# Altium integrated library Resistors.IntLib: 45 symbols
Pins are listed as number, name and electrical type; pins without a type are passive.

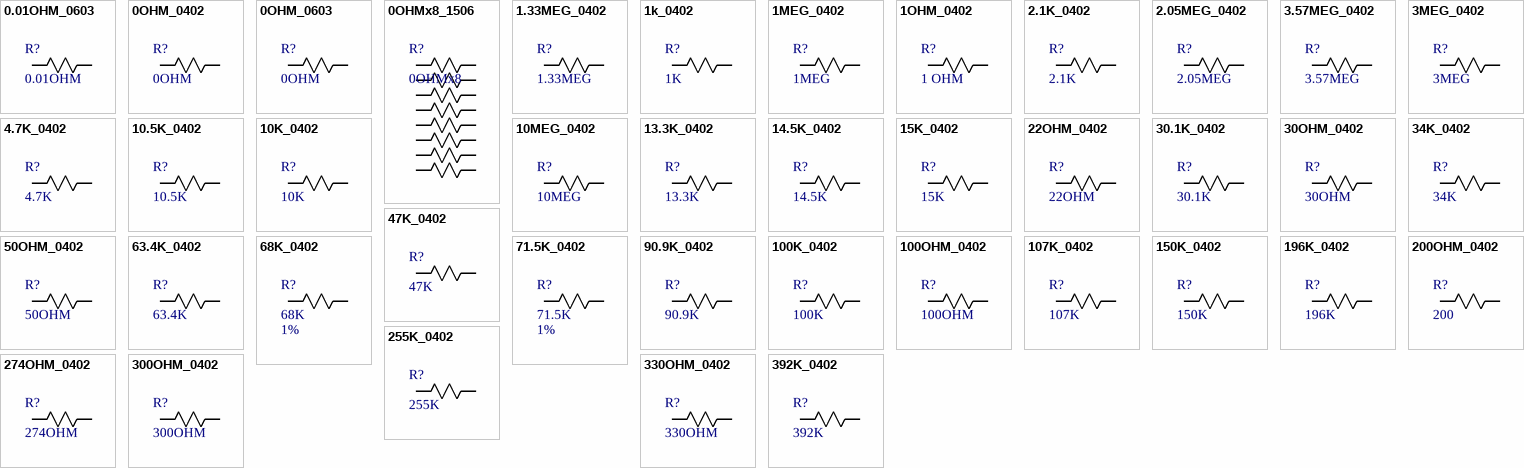
[diagram p0: symbols 0.01OHM_0603 to 392K_0402]

## 0.01OHM_0603
designator R?, comment 0.01OHM
0603; Manufacturer 1: *; Manufacturer Part Number 1: *
footprint RESC1508X06N (Chip Resistor, 2-Leads, Body 1.55x0.80mm, IPC Medium Density)
pins: 1, 2

## 0OHM_0402
designator R?, comment 0OHM
0402; Manufacturer 1: *; Manufacturer Part Number 1: *
footprint RES_CRCW_0402
pins: 1, 2

## 0OHM_0603
designator R?, comment 0OHM
0603; Manufacturer 1: *; Manufacturer Part Number 1: *
footprint RESC1508X06N (Chip Resistor, 2-Leads, Body 1.55x0.80mm, IPC Medium Density)
pins: 1, 2

## 0OHMx8_1506
designator R?, comment 0OHMx8
1506; Manufacturer_Part_Number: EXB-2HVR000V; Vendor: Panasonic; Value: Value; Copyright: Copyright (C) 2015 Accelerated Designs. All rights reserved; RefDes: RefDes; Type: DEV
footprint EXB2HV
pins: 1, 2, 3, 4, 5, 6, 7, 8, 9, 10, 11, 12, 13, 14, 15, 16

## 1.33MEG_0402
designator R?, comment 1.33MEG
0402; Tolerance: 1%; Manufacturer 1: *; Manufacturer Part Number 1: *
footprint RES_CRCW_0402
pins: 1, 2

## 1k_0402
designator R?, comment 1K
0402; Tolerance: 1%; Manufacturer 1: *; Manufacturer Part Number 1: *
footprint RES_CRCW_0402
pins: 1, 2

## 1MEG_0402
designator R?, comment 1MEG
0402; Tolerance: 1%; Manufacturer 1: *; Manufacturer Part Number 1: *
footprint RES_CRCW_0402
pins: 1, 2

## 1OHM_0402
designator R?, comment 1 OHM
0402; Manufacturer 1: *; Manufacturer Part Number 1: *
footprint RES_CRCW_0402
pins: 1, 2

## 2.1K_0402
designator R?, comment 2.1K
0402; Tolerance: 1%; Manufacturer 1: *; Manufacturer Part Number 1: *
footprint RES_CRCW_0402
pins: 1, 2

## 2.05MEG_0402
designator R?, comment 2.05MEG
0402; Tolerance: 1%; Manufacturer 1: *; Manufacturer Part Number 1: *
footprint RES_CRCW_0402
pins: 1, 2

## 3.57MEG_0402
designator R?, comment 3.57MEG
0402; Tolerance: 1%; Manufacturer 1: *; Manufacturer Part Number 1: *
footprint RES_CRCW_0402
pins: 1, 2

## 3MEG_0402
designator R?, comment 3MEG
0402; Tolerance: 1%; Manufacturer 1: *; Manufacturer Part Number 1: *
footprint RES_CRCW_0402
pins: 1, 2

## 4.7K_0402
designator R?, comment 4.7K
0402; Tolerance: 1%; Manufacturer 1: *; Manufacturer Part Number 1: *
footprint RES_CRCW_0402
pins: 1, 2

## 10.5K_0402
designator R?, comment 10.5K
0402; Tolerance: 1%; Manufacturer 1: *; Manufacturer Part Number 1: *
footprint RES_CRCW_0402
pins: 1, 2

## 10K_0402
designator R?, comment 10K
0402; Manufacturer Part Number 1: CRCW040210K0FKED; Tolerance: 1%; Manufacturer 1: *
footprint RES_CRCW_0402
pins: 1, 2

## 10MEG_0402
designator R?, comment 10MEG
0402; Tolerance: 1%; Manufacturer 1: *; Manufacturer Part Number 1: *
footprint RES_CRCW_0402
pins: 1, 2

## 13.3K_0402
designator R?, comment 13.3K
0402; Tolerance: 1%; Manufacturer 1: *; Manufacturer Part Number 1: *
footprint RES_CRCW_0402
pins: 1, 2

## 14.5K_0402
designator R?, comment 14.5K
0402; Tolerance: 1%; Manufacturer 1: *; Manufacturer Part Number 1: *
footprint RES_CRCW_0402
pins: 1, 2

## 15K_0402
designator R?, comment 15K
0402; Tolerance: 1%; Manufacturer 1: *; Manufacturer Part Number 1: *
footprint RES_CRCW_0402
pins: 1, 2

## 22OHM_0402
designator R?, comment 22OHM
0402; Tolerance: 1%; Manufacturer 1: *; Manufacturer Part Number 1: *
footprint RES_CRCW_0402
pins: 1, 2

## 30.1K_0402
designator R?, comment 30.1K
0402; Tolerance: 1%; Manufacturer 1: *; Manufacturer Part Number 1: *
footprint RES_CRCW_0402
pins: 1, 2

## 30OHM_0402
designator R?, comment 30OHM
0402; Tolerance: 1%; Manufacturer 1: *; Manufacturer Part Number 1: *
footprint RES_CRCW_0402
pins: 1, 2

## 34K_0402
designator R?, comment 34K
0402; Tolerance: 1%; Manufacturer 1: *; Manufacturer Part Number 1: *
footprint RES_CRCW_0402
pins: 1, 2

## 47K_0402
designator R?, comment 47K
0402; Tolerance: 1%; Manufacturer 1: *; Manufacturer Part Number 1: *
footprint RES_CRCW_0402
pins: 1, 2

## 50OHM_0402
designator R?, comment 50OHM
0402; Tolerance: 1%; Manufacturer 1: *; Manufacturer Part Number 1: *
footprint RES_CRCW_0402
pins: 1, 2

## 63.4K_0402
designator R?, comment 63.4K
0402; Tolerance: 1%; Manufacturer 1: *; Manufacturer Part Number 1: *
footprint RES_CRCW_0402
pins: 1, 2

## 68K_0402
designator R?, comment 68K  Tolerance: 1%
0402; Manufacturer 1: *; Manufacturer Part Number 1: *
footprint RES_CRCW_0402
pins: 1, 2

## 71.5K_0402
designator R?, comment 71.5K  Tolerance: 1%
0402; Manufacturer 1: *; Manufacturer Part Number 1: *
footprint RES_CRCW_0402
pins: 1, 2

## 90.9K_0402
designator R?, comment 90.9K
0402; Tolerance: 1%; Manufacturer 1: *; Manufacturer Part Number 1: *
footprint RES_CRCW_0402
pins: 1, 2

## 100K_0402
designator R?, comment 100K
0402; Tolerance: 1%; Manufacturer 1: *; Manufacturer Part Number 1: *
footprint RES_CRCW_0402
pins: 1, 2

## 100OHM_0402
designator R?, comment 100OHM
0402; Tolerance: 1%; Manufacturer 1: *; Manufacturer Part Number 1: *
footprint RES_CRCW_0402
pins: 1, 2

## 107K_0402
designator R?, comment 107K
0402; Tolerance: 1%; Manufacturer 1: *; Manufacturer Part Number 1: *
footprint RES_CRCW_0402
pins: 1, 2

## 150K_0402
designator R?, comment 150K
0402; Tolerance: 1%; Manufacturer 1: *; Manufacturer Part Number 1: *
footprint RES_CRCW_0402
pins: 1, 2

## 196K_0402
designator R?, comment 196K
0402; Tolerance: 1%; Manufacturer 1: *; Manufacturer Part Number 1: *
footprint RES_CRCW_0402
pins: 1, 2

## 200OHM_0402
designator R?, comment 200
0402; Tolerance: 1%; Manufacturer 1: *; Manufacturer Part Number 1: *
footprint RES_CRCW_0402
pins: 1, 2

## 255K_0402
designator R?, comment 255K
0402; Tolerance: 1%; Manufacturer 1: *; Manufacturer Part Number 1: *
footprint RES_CRCW_0402
pins: 1, 2

## 274OHM_0402
designator R?, comment 274OHM
0402; Tolerance: 1%; Manufacturer 1: *; Manufacturer Part Number 1: *
footprint RES_CRCW_0402
pins: 1, 2

## 300OHM_0402
designator R?, comment 300OHM
0402; Power: 1/10W; Tolerance: 1%; Manufacturer 1: *; Manufacturer Part Number 1: *
footprint RES_CRCW_0402
pins: 1, 2

## 330OHM_0402
designator R?, comment 330OHM
0402; Power: 1/10W; Tolerance: 1%; Manufacturer 1: *; Manufacturer Part Number 1: *
footprint RES_CRCW_0402
pins: 1, 2

## 392K_0402
designator R?, comment 392K
0402; Tolerance: 1%; Manufacturer 1: *; Manufacturer Part Number 1: *
footprint RES_CRCW_0402
pins: 1, 2

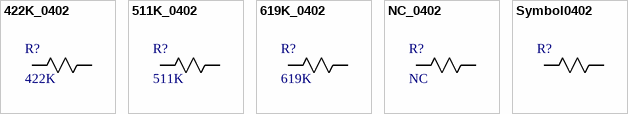
[diagram p1: symbols 422K_0402 to Symbol0402]

## 422K_0402
designator R?, comment 422K
0402; Tolerance: 1%; Manufacturer 1: *; Manufacturer Part Number 1: *
footprint RES_CRCW_0402
pins: 1, 2

## 511K_0402
designator R?, comment 511K
0402; Tolerance: 1%; Manufacturer 1: *; Manufacturer Part Number 1: *
footprint RES_CRCW_0402
pins: 1, 2

## 619K_0402
designator R?, comment 619K
0402; Tolerance: 1%; Manufacturer 1: *; Manufacturer Part Number 1: *
footprint RES_CRCW_0402
pins: 1, 2

## NC_0402
designator R?, comment NC
Manufacturer 1: *; Manufacturer Part Number 1: *
footprint RES_CRCW_0402
pins: 1, 2

## Symbol0402
designator R?
0402; Manufacturer 1: *; Manufacturer Part Number 1: *
footprint RES_CRCW_0402
pins: 1, 2